# Altium footprint library Jump.PcbLib: 91 footprints (part 4 of 6)
Each footprint in its own frame and in the unit in brackets; x right, y up, seen from the top. Pads: shape width x height; smd on the part's side, far side on the other; paste and mask are expansions set on the pad; w line width, h text height; cw(c..) or ccw(c..) is an arc to the next point about the centre after c.
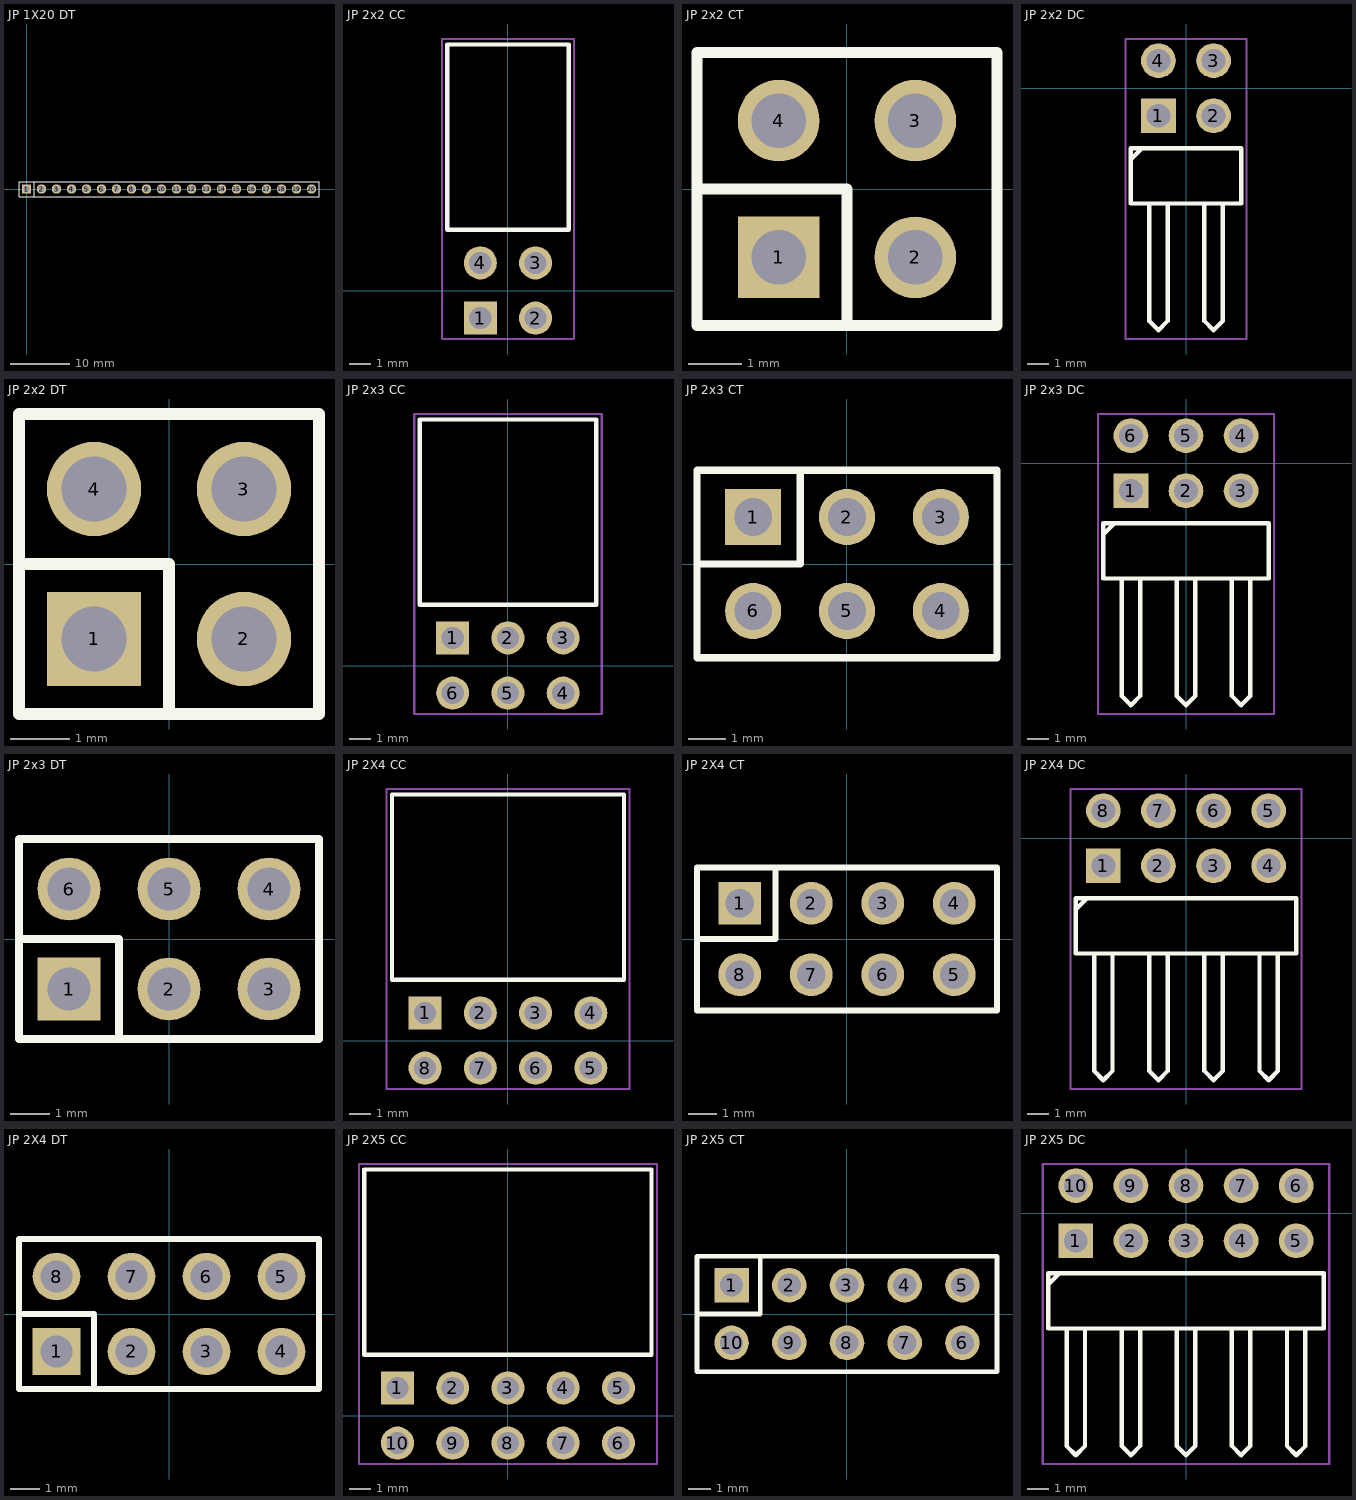
[diagram p3: the footprints below, top view; thin cyan lines are the x and y axes]

## JP 1X20 DT [mm] "20 pins, 1 row, straight, gold plating"
height 8.54
pads (20):
  rect 1.6x1.6 hole 1.1: 1(0,0)
  round 1.6 hole 1.1: 2(2.54,0) 3(5.08,0) 4(7.62,0) 5(10.16,0) 6(12.7,0) 7(15.24,0) 8(17.78,0) 9(20.32,0) 10(22.86,0) 11(25.4,0) 12(27.94,0) 13(30.48,0) 14(33.02,0) 15(35.56,0) 16(38.1,0) 17(40.64,0) 18(43.18,0) 19(45.72,0) 20(48.26,0)
Top Overlay:
  lines w0.2: 1.27,-1.27 1.27,1.27 ; -1.27,-1.27 49.53,-1.27 49.53,1.27 0.635,1.27 -1.27,1.27 -1.27,-1.27
3D body "61302011121.stp": height 8.54, standoff -3, extent -1.27,-1.27 49.53,1.27

## JP 2x2 CC [mm] "JP 2x2 CC"
height 5.08
pads (4):
  rect 1.52x1.52 hole 1.02: 1(-1.27,-1.27)
  round 1.52 hole 1.02: 2(1.27,-1.27) 3(1.27,1.27) 4(-1.27,1.27)
Top Overlay:
  lines w0.2: -2.794,2.794 2.794,2.794 2.794,11.316 -2.794,11.316 -2.794,2.794
Mechanical 15:
  lines w0.1: -3.04,-2.23 -3.04,11.566 3.044,11.566 3.044,-2.23 -3.04,-2.23
3D body "613004243121.stp": height 5.09, standoff -4.46, extent -2.79,-1.524 2.79,11.316

## JP 2x2 CT [mm] "JP 2x2 CT"
height 8.5
pads (4):
  rect 1.52x1.52 hole 1.02: 1(-1.27,-1.27)
  round 1.52 hole 1.02: 2(1.27,-1.27) 3(1.27,1.27) 4(-1.27,1.27)
Top Overlay:
  lines w0.2: -2.79,0 0,0 0,-2.54 ; -2.79,-2.54 -2.79,2.54 2.79,2.54 2.79,-2.54 -2.79,-2.54
3D body "61300421821.stp": height 8.51, standoff -3.09, extent -2.79,-2.54 2.79,2.54

## JP 2x2 DC [mm] "JP 2x2 DC"
height 5.08
pads (4):
  rect 1.6x1.6 hole 1.1: 1(-1.27,-1.27)
  round 1.6 hole 1.1: 2(1.27,-1.27) 3(1.27,1.27) 4(-1.27,1.27)
Top Overlay:
  lines w0.2: -2.498,-3.236 -2.074,-2.812 ; -1.693,-5.335 -1.693,-10.729 -1.27,-11.152 -0.847,-10.729 -0.847,-5.31 ; 0.847,-5.335 0.847,-10.729 1.27,-11.152 1.693,-10.729 1.693,-5.335 ; -2.54,-5.31 -2.54,-2.77 2.54,-2.77 2.54,-5.31 -2.54,-5.31
Mechanical 15:
  lines w0.1: -2.79,-11.56 -2.79,2.27 2.79,2.27 2.79,-11.56 -2.79,-11.56
3D body "61300421021.stp": height 5.09, standoff -2.99, extent -2.54,-11.376 2.54,1.524

## JP 2x2 DT [mm] "JP 2x2 DT"
height 8.54
pads (4):
  rect 1.6x1.6 hole 1.1: 1(-1.27,-1.27)
  round 1.6 hole 1.1: 2(1.27,-1.27) 3(1.27,1.27) 4(-1.27,1.27)
Top Overlay:
  lines w0.2: -2.54,0 0,0 0,-2.54 ; -2.54,-2.54 -2.54,2.54 2.54,2.54 2.54,-2.54 -2.54,-2.54
3D body "61300421121.stp": height 8.55, standoff -2.99, extent -2.54,-2.54 2.54,2.54

## JP 2x3 CC [mm]
height 5.08
pads (6):
  rect 1.52x1.52 hole 1.02: 1(-2.54,1.27)
  round 1.52 hole 1.02: 2(0,1.27) 3(2.54,1.27) 4(2.54,-1.27) 5(0,-1.27) 6(-2.54,-1.27)
Top Overlay:
  lines w0.2: -4.064,2.794 -4.064,11.316 4.064,11.316 4.064,2.794 -4.064,2.794
Mechanical 15:
  lines w0.1: -4.31,-2.23 4.314,-2.23 4.314,11.566 -4.31,11.566 -4.31,-2.23
3D body "613006243121.stp": height 5.09, standoff -4.46, extent -4.06,-1.524 4.06,11.316

## JP 2x3 CT [mm]
height 8.5
pads (6):
  rect 1.52x1.52 hole 1.02: 1(-2.54,1.27)
  round 1.52 hole 1.02: 2(0,1.27) 3(2.54,1.27) 4(2.54,-1.27) 5(0,-1.27) 6(-2.54,-1.27)
Top Overlay:
  lines w0.2: -4.06,0 -1.27,0 -1.27,2.54 ; -4.06,-2.54 -4.06,2.54 4.06,2.54 4.06,-2.54 -4.06,-2.54
3D body "61300621821.stp": height 8.51, standoff -3.09, extent -4.06,-2.54 4.06,2.54

## JP 2x3 DC [mm]
height 5.08
pads (6):
  rect 1.6x1.6 hole 1.1: 1(-2.54,-1.27)
  round 1.6 hole 1.1: 2(0,-1.27) 3(2.54,-1.27) 4(2.54,1.27) 5(0,1.27) 6(-2.54,1.27)
Top Overlay:
  lines w0.2: -3.768,-3.236 -3.344,-2.812 ; -2.963,-5.335 -2.963,-10.729 -2.54,-11.152 -2.117,-10.729 -2.117,-5.31 ; -0.423,-5.335 -0.423,-10.729 0,-11.152 0.423,-10.729 0.423,-5.335 ; 2.117,-5.335 2.117,-10.729 2.54,-11.152 2.963,-10.729 2.963,-5.31 ; -3.81,-5.31 3.81,-5.31 3.81,-2.77 -3.81,-2.77 -3.81,-5.31
Mechanical 15:
  lines w0.1: -4.06,-11.56 4.06,-11.56 4.06,2.27 -4.06,2.27 -4.06,-11.56
3D body "61300621021.stp": height 5.09, standoff -2.99, extent -3.81,-11.249 3.81,1.651

## JP 2x3 DT [mm]
height 8.54
pads (6):
  rect 1.6x1.6 hole 1.1: 1(-2.54,-1.27)
  round 1.6 hole 1.1: 2(0,-1.27) 3(2.54,-1.27) 4(2.54,1.27) 5(0,1.27) 6(-2.54,1.27)
Top Overlay:
  lines w0.2: -3.81,0 -1.27,0 -1.27,-2.54 ; -3.81,-2.54 3.81,-2.54 3.81,2.54 -3.81,2.54 -3.81,-2.54
3D body "61300621121.stp": height 8.55, standoff -2.99, extent -3.81,-2.54 3.81,2.54

## JP 2X4 CC [mm] "08p 2 rows Right angle"
height 5.08
pads (8):
  rect 1.52x1.52 hole 1.02: 1(-3.81,1.27)
  round 1.52 hole 1.02: 2(-1.27,1.27) 3(1.27,1.27) 4(3.81,1.27) 5(3.81,-1.27) 6(1.27,-1.27) 7(-1.27,-1.27) 8(-3.81,-1.27)
Top Overlay:
  lines w0.2: -5.334,2.794 5.334,2.794 5.334,11.316 -5.334,11.316 -5.334,2.794
Mechanical 15:
  lines w0.1: -5.58,-2.23 -5.58,11.566 5.584,11.566 5.584,-2.23 -5.58,-2.23
3D body "613008243121.stp": height 5.09, standoff -4.46, extent -5.33,-1.524 5.33,11.316

## JP 2X4 CT [mm] "8 pins, dual row, straight, gold plating"
height 8.5
pads (8):
  rect 1.52x1.52 hole 1.02: 1(-3.81,1.27)
  round 1.52 hole 1.02: 2(-1.27,1.27) 3(1.27,1.27) 4(3.81,1.27) 5(3.81,-1.27) 6(1.27,-1.27) 7(-1.27,-1.27) 8(-3.81,-1.27)
Top Overlay:
  lines w0.2: -5.33,0 -2.54,0 -2.54,2.54 ; -5.33,-2.54 5.33,-2.54 5.33,2.54 -5.33,2.54 -5.33,-2.54
3D body "61300821821.stp": height 8.51, standoff -3.09, extent -5.33,-2.54 5.33,2.54

## JP 2X4 DC [mm] "08 pins, dual row, right angled, gold plating"
height 5.08
pads (8):
  rect 1.6x1.6 hole 1.1: 1(-3.81,-1.27)
  round 1.6 hole 1.1: 2(-1.27,-1.27) 3(1.27,-1.27) 4(3.81,-1.27) 5(3.81,1.27) 6(1.27,1.27) 7(-1.27,1.27) 8(-3.81,1.27)
Top Overlay:
  lines w0.2: -5.038,-3.236 -4.614,-2.812 ; -4.233,-5.335 -4.233,-10.729 -3.81,-11.152 -3.387,-10.729 -3.387,-5.31 ; -1.693,-5.335 -1.693,-10.729 -1.27,-11.152 -0.847,-10.729 -0.847,-5.335 ; 0.847,-5.335 0.847,-10.729 1.27,-11.152 1.693,-10.729 1.693,-5.31 ; 3.387,-5.335 3.387,-10.729 3.81,-11.152 4.233,-10.729 4.233,-5.335 ; -5.08,-5.31 5.08,-5.31 5.08,-2.77 -5.08,-2.77 -5.08,-5.31
Mechanical 15:
  lines w0.1: -5.33,-11.56 -5.33,2.27 5.33,2.27 5.33,-11.56 -5.33,-11.56
3D body "61300821021.stp": height 5.09, standoff -2.99, extent -5.08,-11.334 5.08,1.566

## JP 2X4 DT [mm]
height 8.54
pads (8):
  rect 1.61x1.6 hole 1.1: 1(-3.81,-1.27)
  oval 1.61x1.6 hole 1.1: 2(-1.27,-1.27) 3(1.27,-1.27) 4(3.81,-1.27) 5(3.81,1.27) 6(1.27,1.27) 7(-1.27,1.27) 8(-3.81,1.27)
Top Overlay:
  lines w0.2: -5.08,0 -2.54,0 -2.54,-2.54 ; -5.08,-2.54 -5.08,2.54 5.08,2.54 5.08,-2.54 -5.08,-2.54
3D body "61300821121.stp": height 8.55, standoff -2.99, extent -5.08,-2.54 5.08,2.54

## JP 2X5 CC [mm] "10p 2 rows Right angle"
height 5.08
pads (10):
  rect 1.52x1.52 hole 1.02: 1(-5.08,1.27)
  round 1.52 hole 1.02: 2(-2.54,1.27) 3(0,1.27) 4(2.54,1.27) 5(5.08,1.27) 6(5.08,-1.27) 7(2.54,-1.27) 8(0,-1.27) 9(-2.54,-1.27) 10(-5.08,-1.27)
Top Overlay:
  lines w0.2: -6.604,2.794 6.604,2.794 6.604,11.316 -6.604,11.316 -6.604,2.794
Mechanical 15:
  lines w0.1: -6.85,-2.23 -6.85,11.566 6.854,11.566 6.854,-2.23 -6.85,-2.23
3D body "613010243121.stp": height 5.09, standoff -4.46, extent -6.6,-1.478 6.6,11.362

## JP 2X5 CT [mm] "10 pins, dual row, straight, gold plating"
height 8.5
pads (10):
  rect 1.52x1.52 hole 1.02: 1(-5.08,1.27)
  round 1.52 hole 1.02: 2(-2.54,1.27) 3(0,1.27) 4(2.54,1.27) 5(5.08,1.27) 6(5.08,-1.27) 7(2.54,-1.27) 8(0,-1.27) 9(-2.54,-1.27) 10(-5.08,-1.27)
Top Overlay:
  lines w0.2: -6.6,0 -3.81,0 -3.81,2.54 ; -6.6,-2.54 -6.6,2.54 6.6,2.54 6.6,-2.54 -1.27,-2.54 -6.6,-2.54
3D body "61301021821.stp": height 8.51, standoff -3.09, extent -6.6,-2.54 6.6,2.54

## JP 2X5 DC [mm] "10 pins, dual row, right angled, gold plating"
height 5.08
pads (10):
  rect 1.6x1.6 hole 1.1: 1(-5.08,-1.27)
  round 1.6 hole 1.1: 2(-2.54,-1.27) 3(0,-1.27) 4(2.54,-1.27) 5(5.08,-1.27) 6(5.08,1.27) 7(2.54,1.27) 8(0,1.27) 9(-2.54,1.27) 10(-5.08,1.27)
Top Overlay:
  lines w0.2: -6.308,-3.236 -5.884,-2.812 ; -5.503,-5.335 -5.503,-10.729 -5.08,-11.152 -4.657,-10.729 -4.657,-5.31 ; -2.963,-5.335 -2.963,-10.729 -2.54,-11.152 -2.117,-10.729 -2.117,-5.335 ; -0.423,-5.335 -0.423,-10.729 0,-11.152 0.423,-10.729 0.423,-5.31 ; 2.117,-5.335 2.117,-10.729 2.54,-11.152 2.963,-10.729 2.963,-5.335 ; 4.657,-5.335 4.657,-10.729 5.08,-11.152 5.503,-10.729 5.503,-5.31 ; -6.35,-5.31 -6.35,-2.77 6.35,-2.77 6.35,-5.31 -6.35,-5.31
Mechanical 15:
  lines w0.1: -6.6,-11.56 6.6,-11.56 6.6,2.27 -6.6,2.27 -6.6,-11.56
3D body "61301021021.stp": height 5.09, standoff -2.99, extent -6.35,-11.334 6.35,1.566